# Altium integrated library Motorola Microcontroller 8-Bit.IntLib: 909 symbols (part 28 of 31)
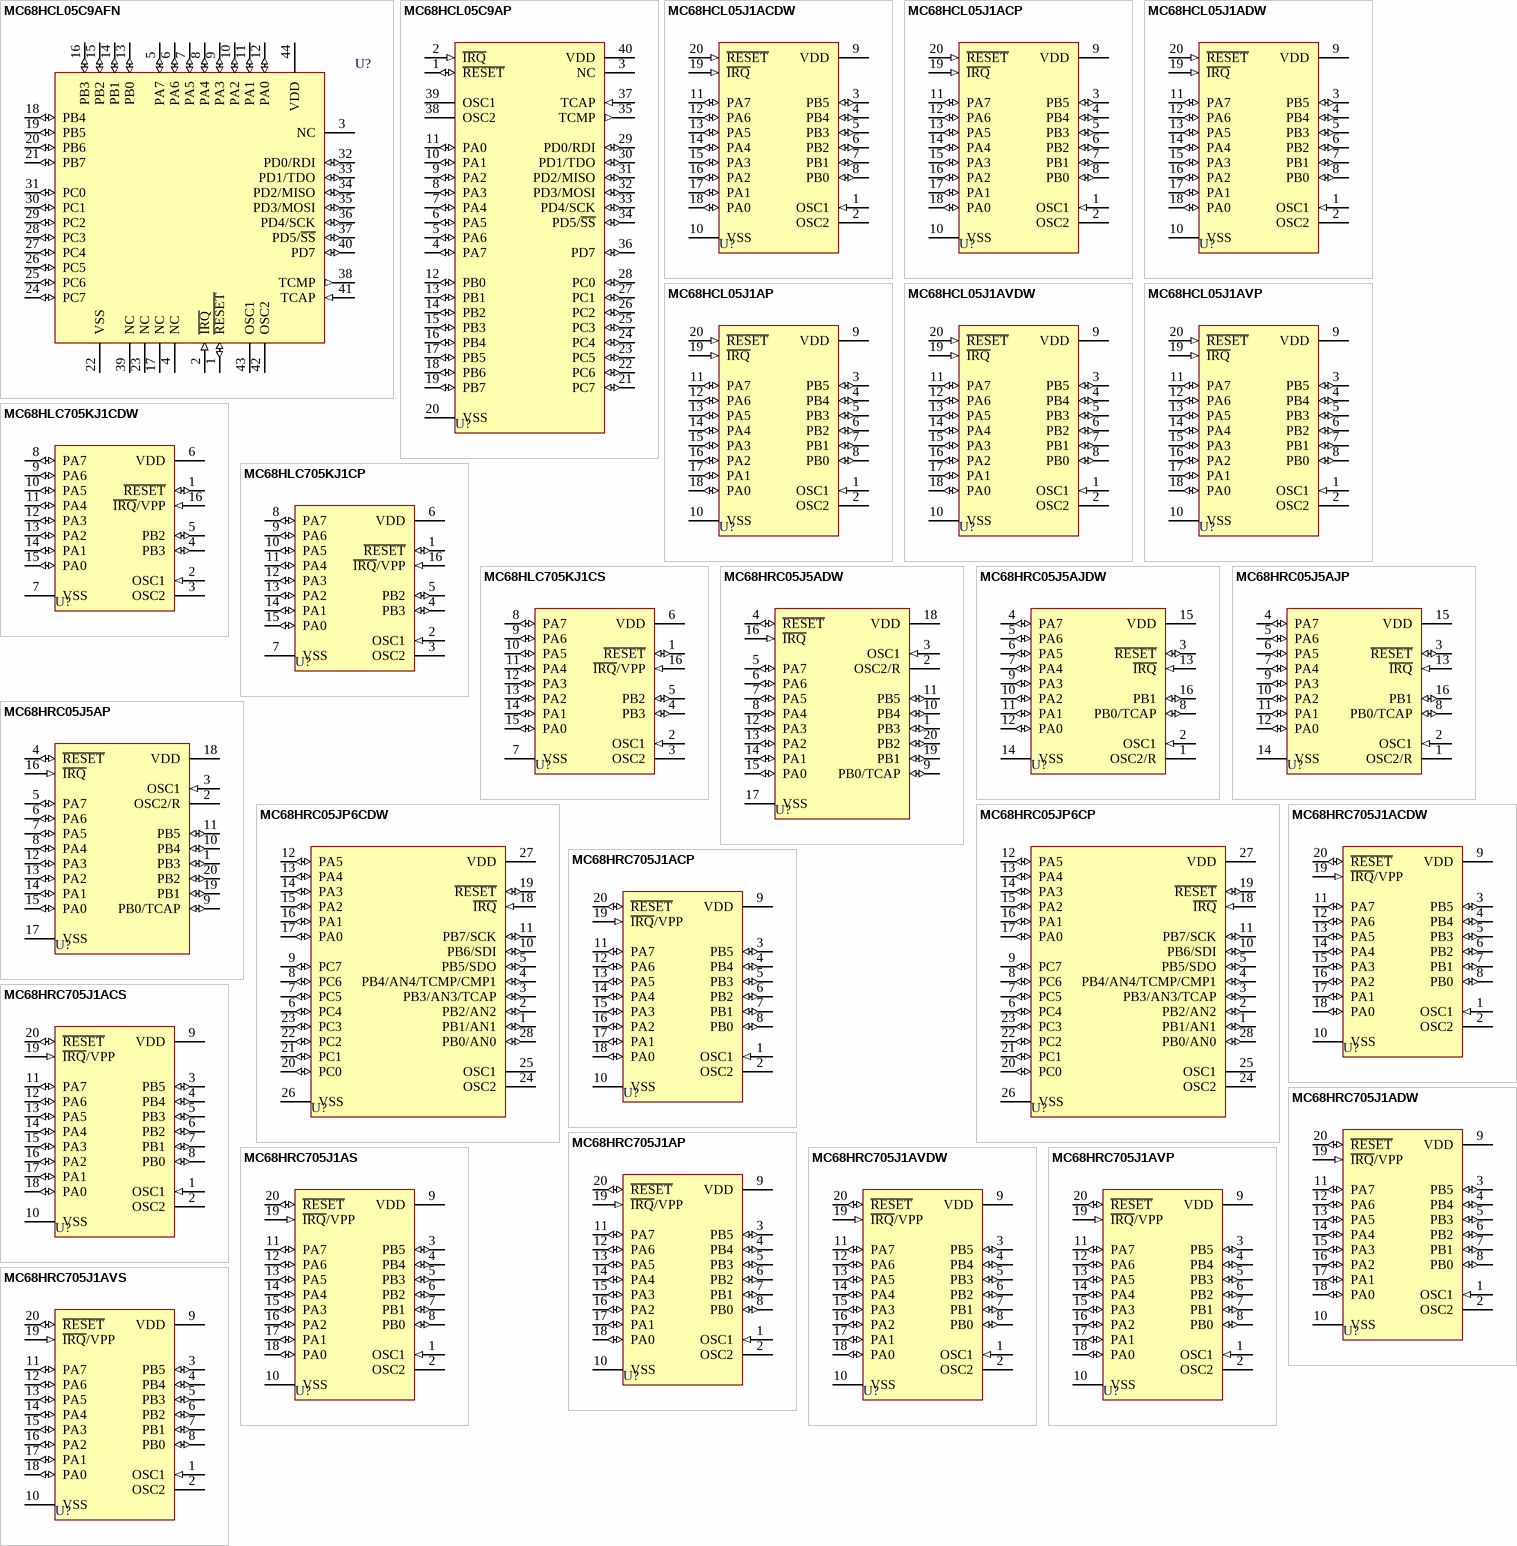
[diagram p140: symbols MC68HCL05C9AFN to MC68HRC705J1AVS]

## MC68HRC705J1ADW
designator U?
8-Bit Microcontroller; Published: 17-Jan-2003; LatestRevisionDate: 13-Apr-2006; LatestRevisionNote: IPC-7351 Footprint Added.; DatasheetVersion: Rev 4, 5/2002; PackageReference: 751D-04; Publisher: Altium Limited; PackageDescription: 20-Pin Small Outline Integrated Circuit 1.27 mm Pitch; ComponentLink1Description: Manufacturer Link; ComponentLink1URL: http://www.freescale.com/; ComponentLink2Description: Datasheet; ComponentLink2URL: http://www.freescale.com/files/microcontrollers/doc/data_sheet/MC68HC705J1A.pdf
footprint 751D-04_N (SOIC, 20-Leads, Body 12.8x7.5mm, Pitch 1.27mm, IPC Medium Density)
footprint 751D-04_L (SOIC, 20-Leads, Body 12.8x7.5mm, Pitch 1.27mm, IPC High Density)
footprint 751D-04_M (SOIC, 20-Leads, Body 12.8x7.5mm, Pitch 1.27mm, IPC Low Density)
3D model 751D-05 (20-Pin Small Outline Integrated Circuit 1.27 mm Pitch)
pins: 1 OSC1 (in), 2 OSC2, 3 PB5 (io), 4 PB4 (io), 5 PB3 (io), 6 PB2 (io), 7 PB1 (io), 8 PB0 (io), 9 VDD (power), 10 VSS (power), 11 PA7 (io), 12 PA6 (io), 13 PA5 (io), 14 PA4 (io), 15 PA3 (io), 16 PA2 (io), 17 PA1 (io), 18 PA0 (io), 19 ~{IRQ}/VPP (in), 20 ~{RESET} (io)

## MC68HRC705J1AP
designator U?
8-Bit Microcontroller; Published: 17-Jan-2003; LatestRevisionDate: 06-Jun-2005; LatestRevisionNote: Stylized 3D Model Added.; DatasheetVersion: Rev 4, 5/2002; PackageReference: 738-03; Publisher: Altium Limited; PackageDescription: DIP; 20 Leads; Row Spacing 7.62 mm; Pitch 2.54 mm; Code_JEDEC: MS-001-AD; ComponentLink1Description: Manufacturer Link; ComponentLink1URL: http://www.freescale.com/; ComponentLink2Description: Datasheet; ComponentLink2URL: http://www.freescale.com/files/microcontrollers/doc/data_sheet/MC68HC705J1A.pdf
footprint 738-03 (DIP; 20 Leads; Row Spacing 7.62 mm; Pitch 2.54 mm)
3D model 738-03 (DIP; 20 Leads; Row Spacing 7.62 mm; Pitch 2.54 mm)
pins: 1 OSC1 (in), 2 OSC2, 3 PB5 (io), 4 PB4 (io), 5 PB3 (io), 6 PB2 (io), 7 PB1 (io), 8 PB0 (io), 9 VDD (power), 10 VSS (power), 11 PA7 (io), 12 PA6 (io), 13 PA5 (io), 14 PA4 (io), 15 PA3 (io), 16 PA2 (io), 17 PA1 (io), 18 PA0 (io), 19 ~{IRQ}/VPP (in), 20 ~{RESET} (io)

## MC68HRC705J1AS
designator U?
8-Bit Microcontroller; Published: 17-Jan-2003; LatestRevisionDate: 06-Jun-2005; LatestRevisionNote: Stylized 3D Model Added.; DatasheetVersion: Rev 4, 5/2002; PackageReference: 732-03; Publisher: Altium Limited; PackageDescription: DIP; 20 Leads; Row Spacing 7.62 mm; Pitch 2.54 mm; Code_JEDEC: MS-015-AE; ComponentLink1Description: Manufacturer Link; ComponentLink1URL: http://www.freescale.com/; ComponentLink2Description: Datasheet; ComponentLink2URL: http://www.freescale.com/files/microcontrollers/doc/data_sheet/MC68HC705J1A.pdf
footprint 732-03 (DIP; 20 Leads; Row Spacing 7.62 mm; Pitch 2.54 mm)
3D model 732-03 (DIP; 20 Leads; Row Spacing 7.62 mm; Pitch 2.54 mm)
pins: 1 OSC1 (in), 2 OSC2, 3 PB5 (io), 4 PB4 (io), 5 PB3 (io), 6 PB2 (io), 7 PB1 (io), 8 PB0 (io), 9 VDD (power), 10 VSS (power), 11 PA7 (io), 12 PA6 (io), 13 PA5 (io), 14 PA4 (io), 15 PA3 (io), 16 PA2 (io), 17 PA1 (io), 18 PA0 (io), 19 ~{IRQ}/VPP (in), 20 ~{RESET} (io)

## MC68HRC705J1AVDW
designator U?
8-Bit Microcontroller; Published: 17-Jan-2003; LatestRevisionDate: 13-Apr-2006; LatestRevisionNote: IPC-7351 Footprint Added.; DatasheetVersion: Rev 4, 5/2002; PackageReference: 751D-04; Publisher: Altium Limited; PackageDescription: 20-Pin Small Outline Integrated Circuit 1.27 mm Pitch; ComponentLink1Description: Manufacturer Link; ComponentLink1URL: http://www.freescale.com/; ComponentLink2Description: Datasheet; ComponentLink2URL: http://www.freescale.com/files/microcontrollers/doc/data_sheet/MC68HC705J1A.pdf
footprint 751D-04_N (SOIC, 20-Leads, Body 12.8x7.5mm, Pitch 1.27mm, IPC Medium Density)
footprint 751D-04_L (SOIC, 20-Leads, Body 12.8x7.5mm, Pitch 1.27mm, IPC High Density)
footprint 751D-04_M (SOIC, 20-Leads, Body 12.8x7.5mm, Pitch 1.27mm, IPC Low Density)
3D model 751D-05 (20-Pin Small Outline Integrated Circuit 1.27 mm Pitch)
pins: 1 OSC1 (in), 2 OSC2, 3 PB5 (io), 4 PB4 (io), 5 PB3 (io), 6 PB2 (io), 7 PB1 (io), 8 PB0 (io), 9 VDD (power), 10 VSS (power), 11 PA7 (io), 12 PA6 (io), 13 PA5 (io), 14 PA4 (io), 15 PA3 (io), 16 PA2 (io), 17 PA1 (io), 18 PA0 (io), 19 ~{IRQ}/VPP (in), 20 ~{RESET} (io)

## MC68HRC705J1AVP
designator U?
8-Bit Microcontroller; Published: 17-Jan-2003; LatestRevisionDate: 06-Jun-2005; LatestRevisionNote: Stylized 3D Model Added.; DatasheetVersion: Rev 4, 5/2002; PackageReference: 738-03; Publisher: Altium Limited; PackageDescription: DIP; 20 Leads; Row Spacing 7.62 mm; Pitch 2.54 mm; Code_JEDEC: MS-001-AD; ComponentLink1Description: Manufacturer Link; ComponentLink1URL: http://www.freescale.com/; ComponentLink2Description: Datasheet; ComponentLink2URL: http://www.freescale.com/files/microcontrollers/doc/data_sheet/MC68HC705J1A.pdf
footprint 738-03 (DIP; 20 Leads; Row Spacing 7.62 mm; Pitch 2.54 mm)
3D model 738-03 (DIP; 20 Leads; Row Spacing 7.62 mm; Pitch 2.54 mm)
pins: 1 OSC1 (in), 2 OSC2, 3 PB5 (io), 4 PB4 (io), 5 PB3 (io), 6 PB2 (io), 7 PB1 (io), 8 PB0 (io), 9 VDD (power), 10 VSS (power), 11 PA7 (io), 12 PA6 (io), 13 PA5 (io), 14 PA4 (io), 15 PA3 (io), 16 PA2 (io), 17 PA1 (io), 18 PA0 (io), 19 ~{IRQ}/VPP (in), 20 ~{RESET} (io)

## MC68HRC705J1AVS
designator U?
8-Bit Microcontroller; Published: 17-Jan-2003; LatestRevisionDate: 06-Jun-2005; LatestRevisionNote: Stylized 3D Model Added.; DatasheetVersion: Rev 4, 5/2002; PackageReference: 732-03; Publisher: Altium Limited; PackageDescription: DIP; 20 Leads; Row Spacing 7.62 mm; Pitch 2.54 mm; Code_JEDEC: MS-015-AE; ComponentLink1Description: Manufacturer Link; ComponentLink1URL: http://www.freescale.com/; ComponentLink2Description: Datasheet; ComponentLink2URL: http://www.freescale.com/files/microcontrollers/doc/data_sheet/MC68HC705J1A.pdf
footprint 732-03 (DIP; 20 Leads; Row Spacing 7.62 mm; Pitch 2.54 mm)
3D model 732-03 (DIP; 20 Leads; Row Spacing 7.62 mm; Pitch 2.54 mm)
pins: 1 OSC1 (in), 2 OSC2, 3 PB5 (io), 4 PB4 (io), 5 PB3 (io), 6 PB2 (io), 7 PB1 (io), 8 PB0 (io), 9 VDD (power), 10 VSS (power), 11 PA7 (io), 12 PA6 (io), 13 PA5 (io), 14 PA4 (io), 15 PA3 (io), 16 PA2 (io), 17 PA1 (io), 18 PA0 (io), 19 ~{IRQ}/VPP (in), 20 ~{RESET} (io)

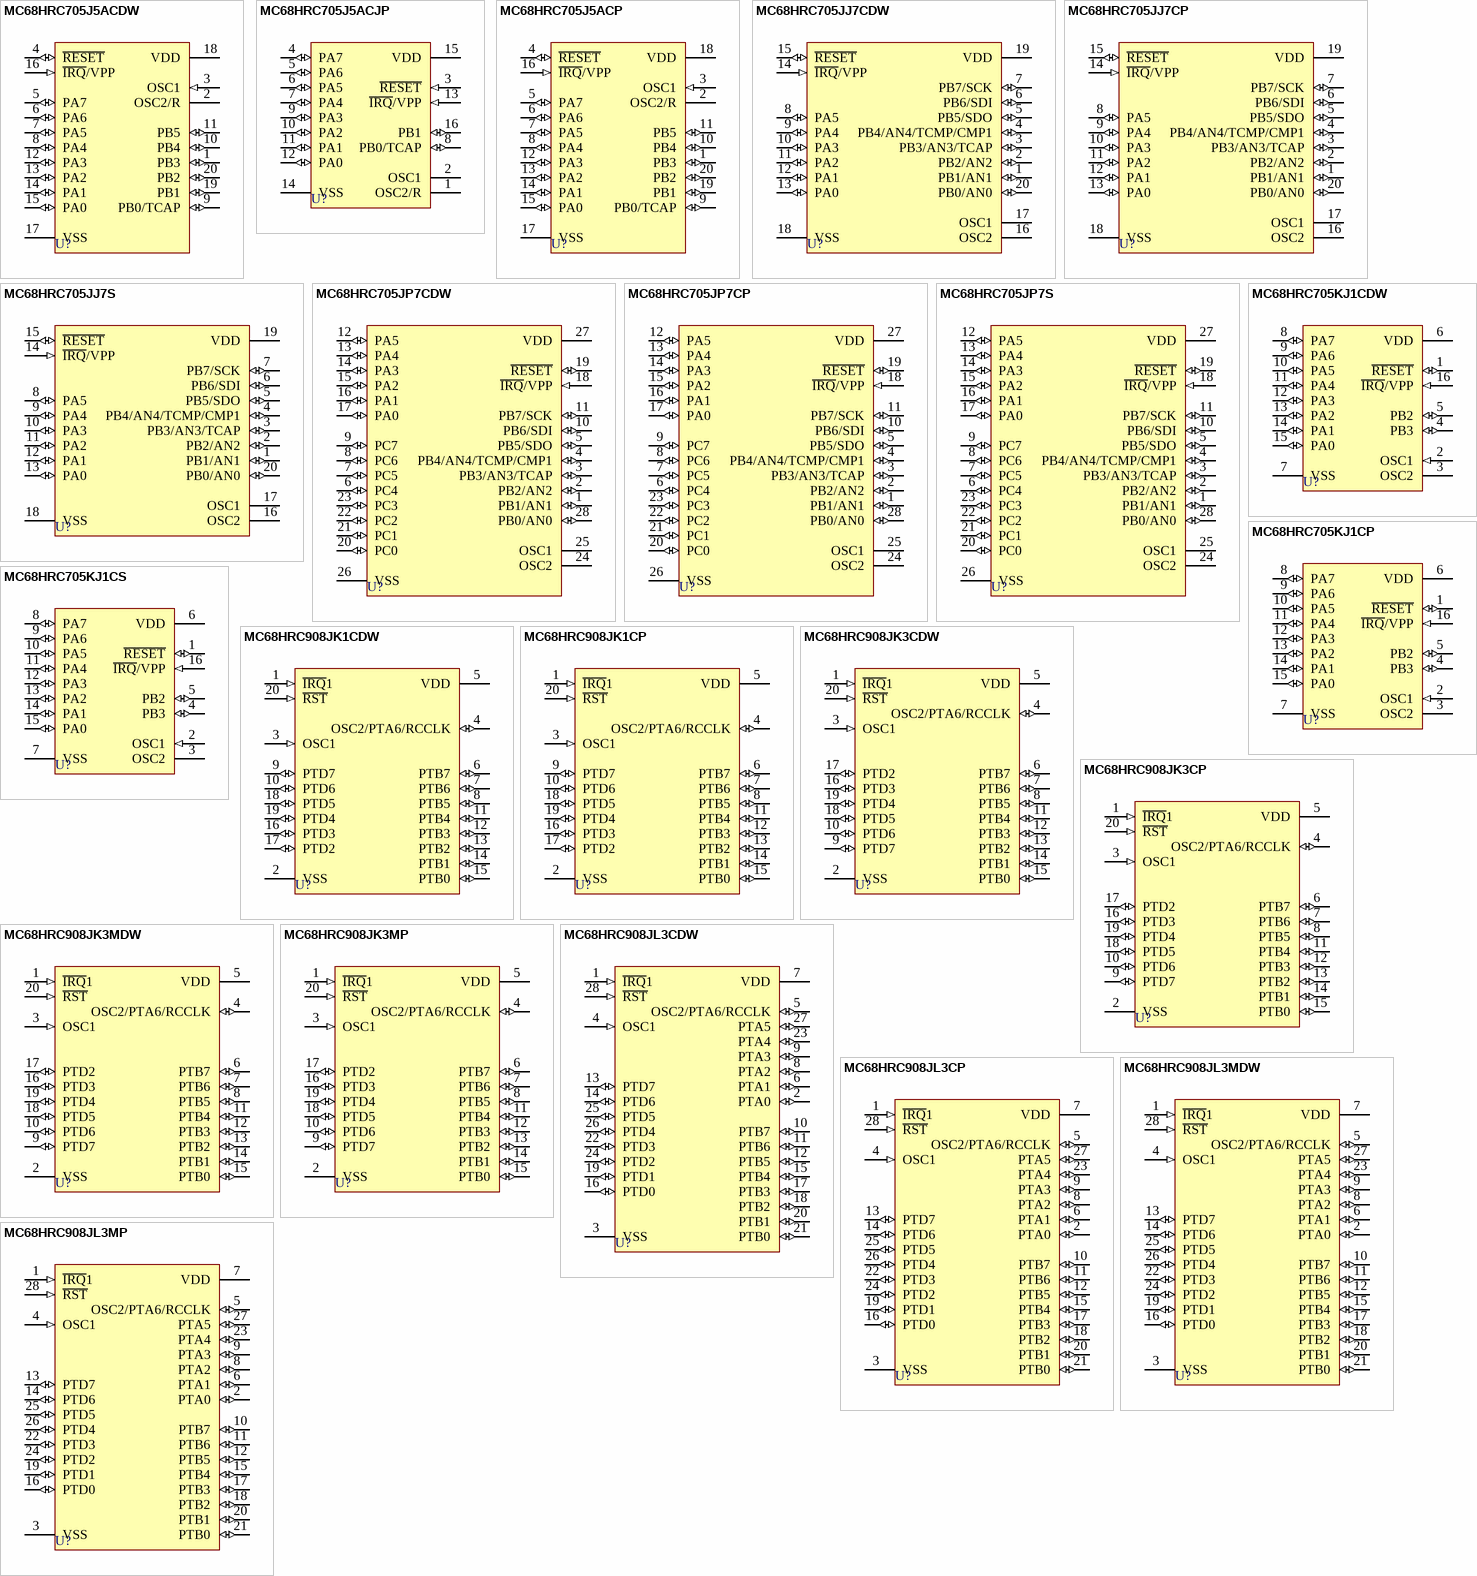
[diagram p100: symbols MC68HRC705J5ACDW to MC68HRC908JL3MP]

## MC68HRC705J5ACDW
designator U?
8-Bit Microcontroller; Published: 17-Jan-2003; LatestRevisionDate: 13-Apr-2006; LatestRevisionNote: IPC-7351 Footprint Added.; DatasheetVersion: Rev 2.1, July 16-1999; PackageReference: 751D-04; Publisher: Altium Limited; PackageDescription: 20-Pin Small Outline Integrated Circuit 1.27 mm Pitch; ComponentLink1Description: Manufacturer Link; ComponentLink1URL: http://www.freescale.com/; ComponentLink2Description: Datasheet; ComponentLink2URL: http://www.freescale.com/files/microcontrollers/doc/data_sheet/HC05J5AGRS.pdf
footprint 751D-04_N (SOIC, 20-Leads, Body 12.8x7.5mm, Pitch 1.27mm, IPC Medium Density)
footprint 751D-04_L (SOIC, 20-Leads, Body 12.8x7.5mm, Pitch 1.27mm, IPC High Density)
footprint 751D-04_M (SOIC, 20-Leads, Body 12.8x7.5mm, Pitch 1.27mm, IPC Low Density)
3D model 751D-05 (20-Pin Small Outline Integrated Circuit 1.27 mm Pitch)
pins: 1 PB3 (io), 2 OSC2/R, 3 OSC1 (in), 4 ~{RESET} (io), 5 PA7 (io), 6 PA6 (io), 7 PA5 (io), 8 PA4 (io), 9 PB0/TCAP (io), 10 PB4 (io), 11 PB5 (io), 12 PA3 (io), 13 PA2 (io), 14 PA1 (io), 15 PA0 (io), 16 ~{IRQ}/VPP (in), 17 VSS (power), 18 VDD (power), 19 PB1 (io), 20 PB2 (io)

## MC68HRC705J5ACJP
designator U?
8-Bit Microcontroller; Published: 17-Jan-2003; LatestRevisionDate: 06-Jun-2005; LatestRevisionNote: Stylized 3D Model Added.; DatasheetVersion: Rev 2.1, July 16-1999; PackageReference: 648-08; Publisher: Altium Limited; PackageDescription: DIP; 16 Leads; Row Spacing 7.62 mm; Pitch 2.54 mm; Code_JEDEC: MS-001-BB; ComponentLink1Description: Manufacturer Link; ComponentLink1URL: http://www.freescale.com/; ComponentLink2Description: Datasheet; ComponentLink2URL: http://www.freescale.com/files/microcontrollers/doc/data_sheet/HC05J5AGRS.pdf
footprint 648-08 (DIP; 16 Leads; Row Spacing 7.62 mm; Pitch 2.54 mm)
3D model 648-08 (DIP; 16 Leads; Row Spacing 7.62 mm; Pitch 2.54 mm)
pins: 1 OSC2/R, 2 OSC1, 3 ~{RESET} (in), 4 PA7 (io), 5 PA6 (io), 6 PA5 (io), 7 PA4 (io), 8 PB0/TCAP (io), 9 PA3 (io), 10 PA2 (io), 11 PA1 (io), 12 PA0 (io), 13 ~{IRQ}/VPP (in), 14 VSS (power), 15 VDD (power), 16 PB1 (io)

## MC68HRC705J5ACP
designator U?
8-Bit Microcontroller; Published: 17-Jan-2003; LatestRevisionDate: 06-Jun-2005; LatestRevisionNote: Stylized 3D Model Added.; DatasheetVersion: Rev 2.1, July 16-1999; PackageReference: 738-03; Publisher: Altium Limited; PackageDescription: DIP; 20 Leads; Row Spacing 7.62 mm; Pitch 2.54 mm; Code_JEDEC: MS-001-AD; ComponentLink1Description: Manufacturer Link; ComponentLink1URL: http://www.freescale.com/; ComponentLink2Description: Datasheet; ComponentLink2URL: http://www.freescale.com/files/microcontrollers/doc/data_sheet/HC05J5AGRS.pdf
footprint 738-03 (DIP; 20 Leads; Row Spacing 7.62 mm; Pitch 2.54 mm)
3D model 738-03 (DIP; 20 Leads; Row Spacing 7.62 mm; Pitch 2.54 mm)
pins: 1 PB3 (io), 2 OSC2/R, 3 OSC1 (in), 4 ~{RESET} (io), 5 PA7 (io), 6 PA6 (io), 7 PA5 (io), 8 PA4 (io), 9 PB0/TCAP (io), 10 PB4 (io), 11 PB5 (io), 12 PA3 (io), 13 PA2 (io), 14 PA1 (io), 15 PA0 (io), 16 ~{IRQ}/VPP (in), 17 VSS (power), 18 VDD (power), 19 PB1 (io), 20 PB2 (io)

## MC68HRC705JJ7CDW
designator U?
8-Bit Microcontroller; Published: 17-Jan-2003; LatestRevisionDate: 13-Apr-2006; LatestRevisionNote: IPC-7351 Footprint Added.; DatasheetVersion: Rev 4, 2001; PackageReference: 751D-04; Publisher: Altium Limited; PackageDescription: 20-Pin Small Outline Integrated Circuit 1.27 mm Pitch; ComponentLink1Description: Manufacturer Link; ComponentLink1URL: http://www.freescale.com/; ComponentLink2Description: Datasheet; ComponentLink2URL: http://www.freescale.com/files/microcontrollers/doc/data_sheet/MC68HC705JJ7.pdf
footprint 751D-04_N (SOIC, 20-Leads, Body 12.8x7.5mm, Pitch 1.27mm, IPC Medium Density)
footprint 751D-04_L (SOIC, 20-Leads, Body 12.8x7.5mm, Pitch 1.27mm, IPC High Density)
footprint 751D-04_M (SOIC, 20-Leads, Body 12.8x7.5mm, Pitch 1.27mm, IPC Low Density)
3D model 751D-05 (20-Pin Small Outline Integrated Circuit 1.27 mm Pitch)
pins: 1 PB1/AN1 (io), 2 PB2/AN2 (io), 3 PB3/AN3/TCAP (io), 4 PB4/AN4/TCMP/CMP1 (io), 5 PB5/SDO (io), 6 PB6/SDI (io), 7 PB7/SCK (io), 8 PA5 (io), 9 PA4 (io), 10 PA3 (io), 11 PA2 (io), 12 PA1 (io), 13 PA0 (io), 14 ~{IRQ}/VPP (in), 15 ~{RESET} (io), 16 OSC2, 17 OSC1, 18 VSS (power), 19 VDD (power), 20 PB0/AN0 (io)

## MC68HRC705JJ7CP
designator U?
8-Bit Microcontroller; Published: 17-Jan-2003; LatestRevisionDate: 06-Jun-2005; LatestRevisionNote: Stylized 3D Model Added.; DatasheetVersion: Rev 4, 2001; PackageReference: 738-03; Publisher: Altium Limited; PackageDescription: DIP; 20 Leads; Row Spacing 7.62 mm; Pitch 2.54 mm; Code_JEDEC: MS-001-AD; ComponentLink1Description: Manufacturer Link; ComponentLink1URL: http://www.freescale.com/; ComponentLink2Description: Datasheet; ComponentLink2URL: http://www.freescale.com/files/microcontrollers/doc/data_sheet/MC68HC705JJ7.pdf
footprint 738-03 (DIP; 20 Leads; Row Spacing 7.62 mm; Pitch 2.54 mm)
3D model 738-03 (DIP; 20 Leads; Row Spacing 7.62 mm; Pitch 2.54 mm)
pins: 1 PB1/AN1 (io), 2 PB2/AN2 (io), 3 PB3/AN3/TCAP (io), 4 PB4/AN4/TCMP/CMP1 (io), 5 PB5/SDO (io), 6 PB6/SDI (io), 7 PB7/SCK (io), 8 PA5 (io), 9 PA4 (io), 10 PA3 (io), 11 PA2 (io), 12 PA1 (io), 13 PA0 (io), 14 ~{IRQ}/VPP (in), 15 ~{RESET} (io), 16 OSC2, 17 OSC1, 18 VSS (power), 19 VDD (power), 20 PB0/AN0 (io)

## MC68HRC705JJ7S
designator U?
8-Bit Microcontroller; Published: 17-Jan-2003; LatestRevisionDate: 06-Jun-2005; LatestRevisionNote: Stylized 3D Model Added.; DatasheetVersion: Rev 4, 2001; PackageReference: 732-03; Publisher: Altium Limited; PackageDescription: DIP; 20 Leads; Row Spacing 7.62 mm; Pitch 2.54 mm; Code_JEDEC: MS-015-AE; ComponentLink1Description: Manufacturer Link; ComponentLink1URL: http://www.freescale.com/; ComponentLink2Description: Datasheet; ComponentLink2URL: http://www.freescale.com/files/microcontrollers/doc/data_sheet/MC68HC705JJ7.pdf
footprint 732-03 (DIP; 20 Leads; Row Spacing 7.62 mm; Pitch 2.54 mm)
3D model 732-03 (DIP; 20 Leads; Row Spacing 7.62 mm; Pitch 2.54 mm)
pins: 1 PB1/AN1 (io), 2 PB2/AN2 (io), 3 PB3/AN3/TCAP (io), 4 PB4/AN4/TCMP/CMP1 (io), 5 PB5/SDO (io), 6 PB6/SDI (io), 7 PB7/SCK (io), 8 PA5 (io), 9 PA4 (io), 10 PA3 (io), 11 PA2 (io), 12 PA1 (io), 13 PA0 (io), 14 ~{IRQ}/VPP (in), 15 ~{RESET} (io), 16 OSC2, 17 OSC1, 18 VSS (power), 19 VDD (power), 20 PB0/AN0 (io)

## MC68HRC705JP7CDW
designator U?
8-Bit Microcontroller; Published: 17-Jan-2003; LatestRevisionDate: 13-Apr-2006; LatestRevisionNote: IPC-7351 Footprint Added.; DatasheetVersion: Rev 4, 2001; PackageReference: 751F-03; Publisher: Altium Limited; PackageDescription: 28-Pin Small Outline Integrated Circuit 1.27 mm Pitch; ComponentLink1Description: Manufacturer Link; ComponentLink1URL: http://www.freescale.com/; ComponentLink2Description: Datasheet; ComponentLink2URL: http://www.freescale.com/files/microcontrollers/doc/data_sheet/MC68HC705JJ7.pdf
footprint 751F-03_N (SOIC, 28-Leads, Body 17.9x7.5mm, Pitch 1.27mm, IPC Medium Density)
footprint 751F-03_L (SOIC, 28-Leads, Body 17.9x7.5mm, Pitch 1.27mm, IPC High Density)
footprint 751F-03_M (SOIC, 28-Leads, Body 17.9x7.5mm, Pitch 1.27mm, IPC Low Density)
3D model 751F-03 (28-Pin Small Outline Integrated Circuit 1.27 mm Pitch)
pins: 1 PB1/AN1 (io), 2 PB2/AN2 (io), 3 PB3/AN3/TCAP (io), 4 PB4/AN4/TCMP/CMP1 (io), 5 PB5/SDO (io), 6 PC4 (io), 7 PC5 (io), 8 PC6 (io), 9 PC7 (io), 10 PB6/SDI (io), 11 PB7/SCK (io), 12 PA5 (io), 13 PA4 (io), 14 PA3 (io), 15 PA2 (io), 16 PA1 (io), 17 PA0 (io), 18 ~{IRQ}/VPP (in), 19 ~{RESET} (io), 20 PC0 (io), 21 PC1 (io), 22 PC2 (io), 23 PC3 (io), 24 OSC2, 25 OSC1, 26 VSS (power), 27 VDD (power), 28 PB0/AN0 (io)

## MC68HRC705JP7CP
designator U?
8-Bit Microcontroller; Published: 17-Jan-2003; LatestRevisionDate: 06-Jun-2005; LatestRevisionNote: Stylized 3D Model Added.; DatasheetVersion: Rev 4, 2001; PackageReference: 710-02; Publisher: Altium Limited; PackageDescription: DIP; 28 Leads; Row Spacing 15.24 mm; Pitch 2.54 mm; ComponentLink1Description: Manufacturer Link; ComponentLink1URL: http://www.freescale.com/; ComponentLink2Description: Datasheet; ComponentLink2URL: http://www.freescale.com/files/microcontrollers/doc/data_sheet/MC68HC705JJ7.pdf
footprint 710-02 (DIP; 28 Leads; Row Spacing 15.24 mm; Pitch 2.54 mm)
3D model 710-02 (DIP; 28 Leads; Row Spacing 15.24 mm; Pitch 2.54 mm)
pins: 1 PB1/AN1 (io), 2 PB2/AN2 (io), 3 PB3/AN3/TCAP (io), 4 PB4/AN4/TCMP/CMP1 (io), 5 PB5/SDO (io), 6 PC4 (io), 7 PC5 (io), 8 PC6 (io), 9 PC7 (io), 10 PB6/SDI (io), 11 PB7/SCK (io), 12 PA5 (io), 13 PA4 (io), 14 PA3 (io), 15 PA2 (io), 16 PA1 (io), 17 PA0 (io), 18 ~{IRQ}/VPP (in), 19 ~{RESET} (io), 20 PC0 (io), 21 PC1 (io), 22 PC2 (io), 23 PC3 (io), 24 OSC2, 25 OSC1, 26 VSS (power), 27 VDD (power), 28 PB0/AN0 (io)

## MC68HRC705JP7S
designator U?
8-Bit Microcontroller; Published: 17-Jan-2003; LatestRevisionDate: 06-Jun-2005; LatestRevisionNote: Stylized 3D Model Added.; DatasheetVersion: Rev 4, 2001; PackageVersion: rev4, 2001; PackageReference: 733A; Publisher: Altium Limited; PackageDescription: CerDIP, Window; 28 Leads; Row Spacing 15.24 mm; Pitch 2.54 mm; ComponentLink1Description: Manufacturer Link; ComponentLink1URL: http://www.freescale.com/; ComponentLink2Description: Datasheet; ComponentLink2URL: http://www.freescale.com/files/microcontrollers/doc/data_sheet/MC68HC705JJ7.pdf
footprint 733A (CerDIP, Window; 28 Leads; Row Spacing 15.24 mm; Pitch 2.54 mm)
3D model 710-02 (CerDIP, Window; 28 Leads; Row Spacing 15.24 mm; Pitch 2.54 mm)
pins: 1 PB1/AN1 (io), 2 PB2/AN2 (io), 3 PB3/AN3/TCAP (io), 4 PB4/AN4/TCMP/CMP1 (io), 5 PB5/SDO (io), 6 PC4 (io), 7 PC5 (io), 8 PC6 (io), 9 PC7 (io), 10 PB6/SDI (io), 11 PB7/SCK (io), 12 PA5 (io), 13 PA4 (io), 14 PA3 (io), 15 PA2 (io), 16 PA1 (io), 17 PA0 (io), 18 ~{IRQ}/VPP (in), 19 ~{RESET} (io), 20 PC0 (io), 21 PC1 (io), 22 PC2 (io), 23 PC3 (io), 24 OSC2, 25 OSC1, 26 VSS (power), 27 VDD (power), 28 PB0/AN0 (io)

## MC68HRC705KJ1CDW
designator U?
8-Bit Microcontroller; Published: 17-Jan-2003; LatestRevisionDate: 13-Apr-2006; LatestRevisionNote: IPC-7351 Footprint Added.; DatasheetVersion: Rev 3, 4/2002; PackageVersion: Sep-2002; PackageReference: 751G; Publisher: Altium Limited; PackageDescription: 16-Pin Small Outline Integrated Circuit 1.27 mm Pitch; ComponentLink1Description: Manufacturer Link; ComponentLink1URL: http://www.freescale.com/; ComponentLink2Description: Datasheet; ComponentLink2URL: http://www.freescale.com/files/microcontrollers/doc/data_sheet/MC68HC705KJ1.pdf
footprint 751G_N (SOIC, 16-Leads, Body 10.3x7.5mm, Pitch 1.27mm, IPC Medium Density)
footprint 751G_L (SOIC, 16-Leads, Body 10.3x7.5mm, Pitch 1.27mm, IPC High Density)
footprint 751G_M (SOIC, 16-Leads, Body 10.3x7.5mm, Pitch 1.27mm, IPC Low Density)
3D model 751G (16-Pin Small Outline Integrated Circuit 1.27 mm Pitch)
pins: 1 ~{RESET} (io), 2 OSC1 (in), 3 OSC2, 4 PB3 (io), 5 PB2 (io), 6 VDD (power), 7 VSS (power), 8 PA7 (io), 9 PA6 (io), 10 PA5 (io), 11 PA4 (io), 12 PA3 (io), 13 PA2 (io), 14 PA1 (io), 15 PA0 (io), 16 ~{IRQ}/VPP (in)

## MC68HRC705KJ1CP
designator U?
8-Bit Microcontroller; Published: 17-Jan-2003; LatestRevisionDate: 06-Jun-2005; LatestRevisionNote: Stylized 3D Model Added.; DatasheetVersion: Rev 3, 4/2002; PackageReference: 648-08; Publisher: Altium Limited; PackageDescription: DIP; 16 Leads; Row Spacing 7.62 mm; Pitch 2.54 mm; Code_JEDEC: MS-001-BB; ComponentLink1Description: Manufacturer Link; ComponentLink1URL: http://www.freescale.com/; ComponentLink2Description: Datasheet; ComponentLink2URL: http://www.freescale.com/files/microcontrollers/doc/data_sheet/MC68HC705KJ1.pdf
footprint 648-08 (DIP; 16 Leads; Row Spacing 7.62 mm; Pitch 2.54 mm)
3D model 648-08 (DIP; 16 Leads; Row Spacing 7.62 mm; Pitch 2.54 mm)
pins: 1 ~{RESET} (io), 2 OSC1 (in), 3 OSC2, 4 PB3 (io), 5 PB2 (io), 6 VDD (power), 7 VSS (power), 8 PA7 (io), 9 PA6 (io), 10 PA5 (io), 11 PA4 (io), 12 PA3 (io), 13 PA2 (io), 14 PA1 (io), 15 PA0 (io), 16 ~{IRQ}/VPP (in)

## MC68HRC705KJ1CS
designator U?
8-Bit Microcontroller; Published: 17-Jan-2003; LatestRevisionDate: 06-Jun-2005; LatestRevisionNote: Stylized 3D Model Added.; DatasheetVersion: Rev 3, 4/2002; PackageReference: 620-10; Publisher: Altium Limited; PackageDescription: DIP; 16 Leads; Row Spacing 7.62 mm; Pitch 2.54 mm; ComponentLink1Description: Manufacturer Link; ComponentLink1URL: http://www.freescale.com/; ComponentLink2Description: Datasheet; ComponentLink2URL: http://www.freescale.com/files/microcontrollers/doc/data_sheet/MC68HC705KJ1.pdf
footprint 620-10 (DIP; 16 Leads; Row Spacing 7.62 mm; Pitch 2.54 mm)
3D model 620-10 (DIP; 16 Leads; Row Spacing 7.62 mm; Pitch 2.54 mm)
pins: 1 ~{RESET} (io), 2 OSC1 (in), 3 OSC2, 4 PB3 (io), 5 PB2 (io), 6 VDD (power), 7 VSS (power), 8 PA7 (io), 9 PA6 (io), 10 PA5 (io), 11 PA4 (io), 12 PA3 (io), 13 PA2 (io), 14 PA1 (io), 15 PA0 (io), 16 ~{IRQ}/VPP (in)

## MC68HRC908JK1CDW
designator U?
8-Bit Microcontroller; Published: 17-Jan-2003; LatestRevisionDate: 13-Apr-2006; LatestRevisionNote: IPC-7351 Footprint Added.; DatasheetVersion: Rev 1.0, 1999; PackageVersion: rev4.0, 2001; PackageReference: 751D-05; Publisher: Altium Limited; PackageDescription: 20-Pin Plastic Small Outline Integrated Circuit 1.27 mm Pitch; ComponentLink1Description: Manufacturer Link; ComponentLink1URL: http://www.freescale.com/
footprint 751D-05_N (SOIC, 20-Leads, Body 12.8x7.5mm, Pitch 1.27mm, IPC Medium Density)
footprint 751D-05_L (SOIC, 20-Leads, Body 12.8x7.5mm, Pitch 1.27mm, IPC High Density)
footprint 751D-05_M (SOIC, 20-Leads, Body 12.8x7.5mm, Pitch 1.27mm, IPC Low Density)
3D model 751D-05 (20-Pin Plastic Small Outline Integrated Circuit 1.27 mm Pitch)
pins: 1 ~{IRQ}1 (in), 2 VSS (power), 3 OSC1 (in), 4 OSC2/PTA6/RCCLK (io), 5 VDD (power), 6 PTB7 (io), 7 PTB6 (io), 8 PTB5 (io), 9 PTD7 (io), 10 PTD6 (io), 11 PTB4 (io), 12 PTB3 (io), 13 PTB2 (io), 14 PTB1 (io), 15 PTB0 (io), 16 PTD3 (io), 17 PTD2 (io), 18 PTD5 (io), 19 PTD4 (io), 20 ~{RST} (in)

## MC68HRC908JK1CP
designator U?
8-Bit Microcontroller; Published: 17-Jan-2003; LatestRevisionDate: 06-Jun-2005; LatestRevisionNote: Stylized 3D Model Added.; DatasheetVersion: Rev 1.0, 1999; PackageReference: 738-03; Publisher: Altium Limited; PackageDescription: DIP; 20 Leads; Row Spacing 7.62 mm; Pitch 2.54 mm; Code_JEDEC: MS-001-AD; ComponentLink1Description: Manufacturer Link; ComponentLink1URL: http://www.freescale.com/
footprint 738-03 (DIP; 20 Leads; Row Spacing 7.62 mm; Pitch 2.54 mm)
3D model 738-03 (DIP; 20 Leads; Row Spacing 7.62 mm; Pitch 2.54 mm)
pins: 1 ~{IRQ}1 (in), 2 VSS (power), 3 OSC1 (in), 4 OSC2/PTA6/RCCLK (io), 5 VDD (power), 6 PTB7 (io), 7 PTB6 (io), 8 PTB5 (io), 9 PTD7 (io), 10 PTD6 (io), 11 PTB4 (io), 12 PTB3 (io), 13 PTB2 (io), 14 PTB1 (io), 15 PTB0 (io), 16 PTD3 (io), 17 PTD2 (io), 18 PTD5 (io), 19 PTD4 (io), 20 ~{RST} (in)

## MC68HRC908JK3CDW
designator U?
8-Bit Microcontroller; Published: 17-Jan-2003; LatestRevisionDate: 13-Apr-2006; LatestRevisionNote: IPC-7351 Footprint Added.; DatasheetVersion: Rev 1.0, 1999; PackageVersion: rev4.0, 2001; PackageReference: 751D-05; Publisher: Altium Limited; PackageDescription: 20-Pin Plastic Small Outline Integrated Circuit 1.27 mm Pitch; ComponentLink1Description: Manufacturer Link; ComponentLink1URL: http://www.freescale.com/
footprint 751D-05_N (SOIC, 20-Leads, Body 12.8x7.5mm, Pitch 1.27mm, IPC Medium Density)
footprint 751D-05_L (SOIC, 20-Leads, Body 12.8x7.5mm, Pitch 1.27mm, IPC High Density)
footprint 751D-05_M (SOIC, 20-Leads, Body 12.8x7.5mm, Pitch 1.27mm, IPC Low Density)
3D model 751D-05 (20-Pin Plastic Small Outline Integrated Circuit 1.27 mm Pitch)
pins: 1 ~{IRQ}1 (in), 2 VSS (power), 3 OSC1 (in), 4 OSC2/PTA6/RCCLK (io), 5 VDD (power), 6 PTB7 (io), 7 PTB6 (io), 8 PTB5 (io), 9 PTD7 (io), 10 PTD6 (io), 11 PTB4 (io), 12 PTB3 (io), 13 PTB2 (io), 14 PTB1 (io), 15 PTB0 (io), 16 PTD3 (io), 17 PTD2 (io), 18 PTD5 (io), 19 PTD4 (io), 20 ~{RST} (in)

## MC68HRC908JK3CP
designator U?
8-Bit Microcontroller; Published: 17-Jan-2003; LatestRevisionDate: 06-Jun-2005; LatestRevisionNote: Stylized 3D Model Added.; DatasheetVersion: Rev 1.0, 1999; PackageReference: 738-03; Publisher: Altium Limited; PackageDescription: DIP; 20 Leads; Row Spacing 7.62 mm; Pitch 2.54 mm; Code_JEDEC: MS-001-AD; ComponentLink1Description: Manufacturer Link; ComponentLink1URL: http://www.freescale.com/
footprint 738-03 (DIP; 20 Leads; Row Spacing 7.62 mm; Pitch 2.54 mm)
3D model 738-03 (DIP; 20 Leads; Row Spacing 7.62 mm; Pitch 2.54 mm)
pins: 1 ~{IRQ}1 (in), 2 VSS (power), 3 OSC1 (in), 4 OSC2/PTA6/RCCLK (io), 5 VDD (power), 6 PTB7 (io), 7 PTB6 (io), 8 PTB5 (io), 9 PTD7 (io), 10 PTD6 (io), 11 PTB4 (io), 12 PTB3 (io), 13 PTB2 (io), 14 PTB1 (io), 15 PTB0 (io), 16 PTD3 (io), 17 PTD2 (io), 18 PTD5 (io), 19 PTD4 (io), 20 ~{RST} (in)

## MC68HRC908JK3MDW
designator U?
8-Bit Microcontroller; Published: 17-Jan-2003; LatestRevisionDate: 13-Apr-2006; LatestRevisionNote: IPC-7351 Footprint Added.; DatasheetVersion: Rev 1.0, 1999; PackageVersion: rev4.0, 2001; PackageReference: 751D-05; Publisher: Altium Limited; PackageDescription: 20-Pin Plastic Small Outline Integrated Circuit 1.27 mm Pitch; ComponentLink1Description: Manufacturer Link; ComponentLink1URL: http://www.freescale.com/
footprint 751D-05_N (SOIC, 20-Leads, Body 12.8x7.5mm, Pitch 1.27mm, IPC Medium Density)
footprint 751D-05_L (SOIC, 20-Leads, Body 12.8x7.5mm, Pitch 1.27mm, IPC High Density)
footprint 751D-05_M (SOIC, 20-Leads, Body 12.8x7.5mm, Pitch 1.27mm, IPC Low Density)
3D model 751D-05 (20-Pin Plastic Small Outline Integrated Circuit 1.27 mm Pitch)
pins: 1 ~{IRQ}1 (in), 2 VSS (power), 3 OSC1 (in), 4 OSC2/PTA6/RCCLK (io), 5 VDD (power), 6 PTB7 (io), 7 PTB6 (io), 8 PTB5 (io), 9 PTD7 (io), 10 PTD6 (io), 11 PTB4 (io), 12 PTB3 (io), 13 PTB2 (io), 14 PTB1 (io), 15 PTB0 (io), 16 PTD3 (io), 17 PTD2 (io), 18 PTD5 (io), 19 PTD4 (io), 20 ~{RST} (in)

## MC68HRC908JK3MP
designator U?
8-Bit Microcontroller; Published: 17-Jan-2003; LatestRevisionDate: 06-Jun-2005; LatestRevisionNote: Stylized 3D Model Added.; DatasheetVersion: Rev 1.0, 1999; PackageReference: 738-03; Publisher: Altium Limited; PackageDescription: DIP; 20 Leads; Row Spacing 7.62 mm; Pitch 2.54 mm; Code_JEDEC: MS-001-AD; ComponentLink1Description: Manufacturer Link; ComponentLink1URL: http://www.freescale.com/
footprint 738-03 (DIP; 20 Leads; Row Spacing 7.62 mm; Pitch 2.54 mm)
3D model 738-03 (DIP; 20 Leads; Row Spacing 7.62 mm; Pitch 2.54 mm)
pins: 1 ~{IRQ}1 (in), 2 VSS (power), 3 OSC1 (in), 4 OSC2/PTA6/RCCLK (io), 5 VDD (power), 6 PTB7 (io), 7 PTB6 (io), 8 PTB5 (io), 9 PTD7 (io), 10 PTD6 (io), 11 PTB4 (io), 12 PTB3 (io), 13 PTB2 (io), 14 PTB1 (io), 15 PTB0 (io), 16 PTD3 (io), 17 PTD2 (io), 18 PTD5 (io), 19 PTD4 (io), 20 ~{RST} (in)

## MC68HRC908JL3CDW
designator U?
8-Bit Microcontroller; Published: 17-Jan-2003; LatestRevisionDate: 13-Apr-2006; LatestRevisionNote: IPC-7351 Footprint Added.; DatasheetVersion: Rev 1.0, 1999; PackageReference: 751F-03; Publisher: Altium Limited; PackageDescription: 28-Pin Small Outline Integrated Circuit 1.27 mm Pitch; ComponentLink1Description: Manufacturer Link; ComponentLink1URL: http://www.freescale.com/
footprint 751F-03_N (SOIC, 28-Leads, Body 17.9x7.5mm, Pitch 1.27mm, IPC Medium Density)
footprint 751F-03_L (SOIC, 28-Leads, Body 17.9x7.5mm, Pitch 1.27mm, IPC High Density)
footprint 751F-03_M (SOIC, 28-Leads, Body 17.9x7.5mm, Pitch 1.27mm, IPC Low Density)
3D model 751F-03 (28-Pin Small Outline Integrated Circuit 1.27 mm Pitch)
pins: 1 ~{IRQ}1 (in), 2 PTA0 (io), 3 VSS (power), 4 OSC1 (in), 5 OSC2/PTA6/RCCLK (io), 6 PTA1 (io), 7 VDD (power), 8 PTA2 (io), 9 PTA3 (io), 10 PTB7 (io), 11 PTB6 (io), 12 PTB5 (io), 13 PTD7 (io), 14 PTD6 (io), 15 PTB4 (io), 16 PTD0 (io), 17 PTB3 (io), 18 PTB2 (io), 19 PTD1 (io), 20 PTB1 (io), 21 PTB0 (io), 22 PTD3 (io), 23 PTA4 (io), 24 PTD2 (io), 25 PTD5 (io), 26 PTD4 (io), 27 PTA5 (io), 28 ~{RST} (in)

## MC68HRC908JL3CP
designator U?
8-Bit Microcontroller; Published: 17-Jan-2003; LatestRevisionDate: 06-Jun-2005; LatestRevisionNote: Stylized 3D Model Added.; DatasheetVersion: Rev 1.0, 1999; PackageReference: 710-02; Publisher: Altium Limited; PackageDescription: DIP; 28 Leads; Row Spacing 15.24 mm; Pitch 2.54 mm; ComponentLink1Description: Manufacturer Link; ComponentLink1URL: http://www.freescale.com/
footprint 710-02 (DIP; 28 Leads; Row Spacing 15.24 mm; Pitch 2.54 mm)
3D model 710-02 (DIP; 28 Leads; Row Spacing 15.24 mm; Pitch 2.54 mm)
pins: 1 ~{IRQ}1 (in), 2 PTA0 (io), 3 VSS (power), 4 OSC1 (in), 5 OSC2/PTA6/RCCLK (io), 6 PTA1 (io), 7 VDD (power), 8 PTA2 (io), 9 PTA3 (io), 10 PTB7 (io), 11 PTB6 (io), 12 PTB5 (io), 13 PTD7 (io), 14 PTD6 (io), 15 PTB4 (io), 16 PTD0 (io), 17 PTB3 (io), 18 PTB2 (io), 19 PTD1 (io), 20 PTB1 (io), 21 PTB0 (io), 22 PTD3 (io), 23 PTA4 (io), 24 PTD2 (io), 25 PTD5 (io), 26 PTD4 (io), 27 PTA5 (io), 28 ~{RST} (in)

## MC68HRC908JL3MDW
designator U?
8-Bit Microcontroller; Published: 17-Jan-2003; LatestRevisionDate: 13-Apr-2006; LatestRevisionNote: IPC-7351 Footprint Added.; DatasheetVersion: Rev 1.0, 1999; PackageReference: 751F-03; Publisher: Altium Limited; PackageDescription: 28-Pin Small Outline Integrated Circuit 1.27 mm Pitch; ComponentLink1Description: Manufacturer Link; ComponentLink1URL: http://www.freescale.com/
footprint 751F-03_N (SOIC, 28-Leads, Body 17.9x7.5mm, Pitch 1.27mm, IPC Medium Density)
footprint 751F-03_L (SOIC, 28-Leads, Body 17.9x7.5mm, Pitch 1.27mm, IPC High Density)
footprint 751F-03_M (SOIC, 28-Leads, Body 17.9x7.5mm, Pitch 1.27mm, IPC Low Density)
3D model 751F-03 (28-Pin Small Outline Integrated Circuit 1.27 mm Pitch)
pins: 1 ~{IRQ}1 (in), 2 PTA0 (io), 3 VSS (power), 4 OSC1 (in), 5 OSC2/PTA6/RCCLK (io), 6 PTA1 (io), 7 VDD (power), 8 PTA2 (io), 9 PTA3 (io), 10 PTB7 (io), 11 PTB6 (io), 12 PTB5 (io), 13 PTD7 (io), 14 PTD6 (io), 15 PTB4 (io), 16 PTD0 (io), 17 PTB3 (io), 18 PTB2 (io), 19 PTD1 (io), 20 PTB1 (io), 21 PTB0 (io), 22 PTD3 (io), 23 PTA4 (io), 24 PTD2 (io), 25 PTD5 (io), 26 PTD4 (io), 27 PTA5 (io), 28 ~{RST} (in)

## MC68HRC908JL3MP
designator U?
8-Bit Microcontroller; Published: 17-Jan-2003; LatestRevisionDate: 06-Jun-2005; LatestRevisionNote: Stylized 3D Model Added.; DatasheetVersion: Rev 1.0, 1999; PackageReference: 710-02; Publisher: Altium Limited; PackageDescription: DIP; 28 Leads; Row Spacing 15.24 mm; Pitch 2.54 mm; ComponentLink1Description: Manufacturer Link; ComponentLink1URL: http://www.freescale.com/
footprint 710-02 (DIP; 28 Leads; Row Spacing 15.24 mm; Pitch 2.54 mm)
3D model 710-02 (DIP; 28 Leads; Row Spacing 15.24 mm; Pitch 2.54 mm)
pins: 1 ~{IRQ}1 (in), 2 PTA0 (io), 3 VSS (power), 4 OSC1 (in), 5 OSC2/PTA6/RCCLK (io), 6 PTA1 (io), 7 VDD (power), 8 PTA2 (io), 9 PTA3 (io), 10 PTB7 (io), 11 PTB6 (io), 12 PTB5 (io), 13 PTD7 (io), 14 PTD6 (io), 15 PTB4 (io), 16 PTD0 (io), 17 PTB3 (io), 18 PTB2 (io), 19 PTD1 (io), 20 PTB1 (io), 21 PTB0 (io), 22 PTD3 (io), 23 PTA4 (io), 24 PTD2 (io), 25 PTD5 (io), 26 PTD4 (io), 27 PTA5 (io), 28 ~{RST} (in)

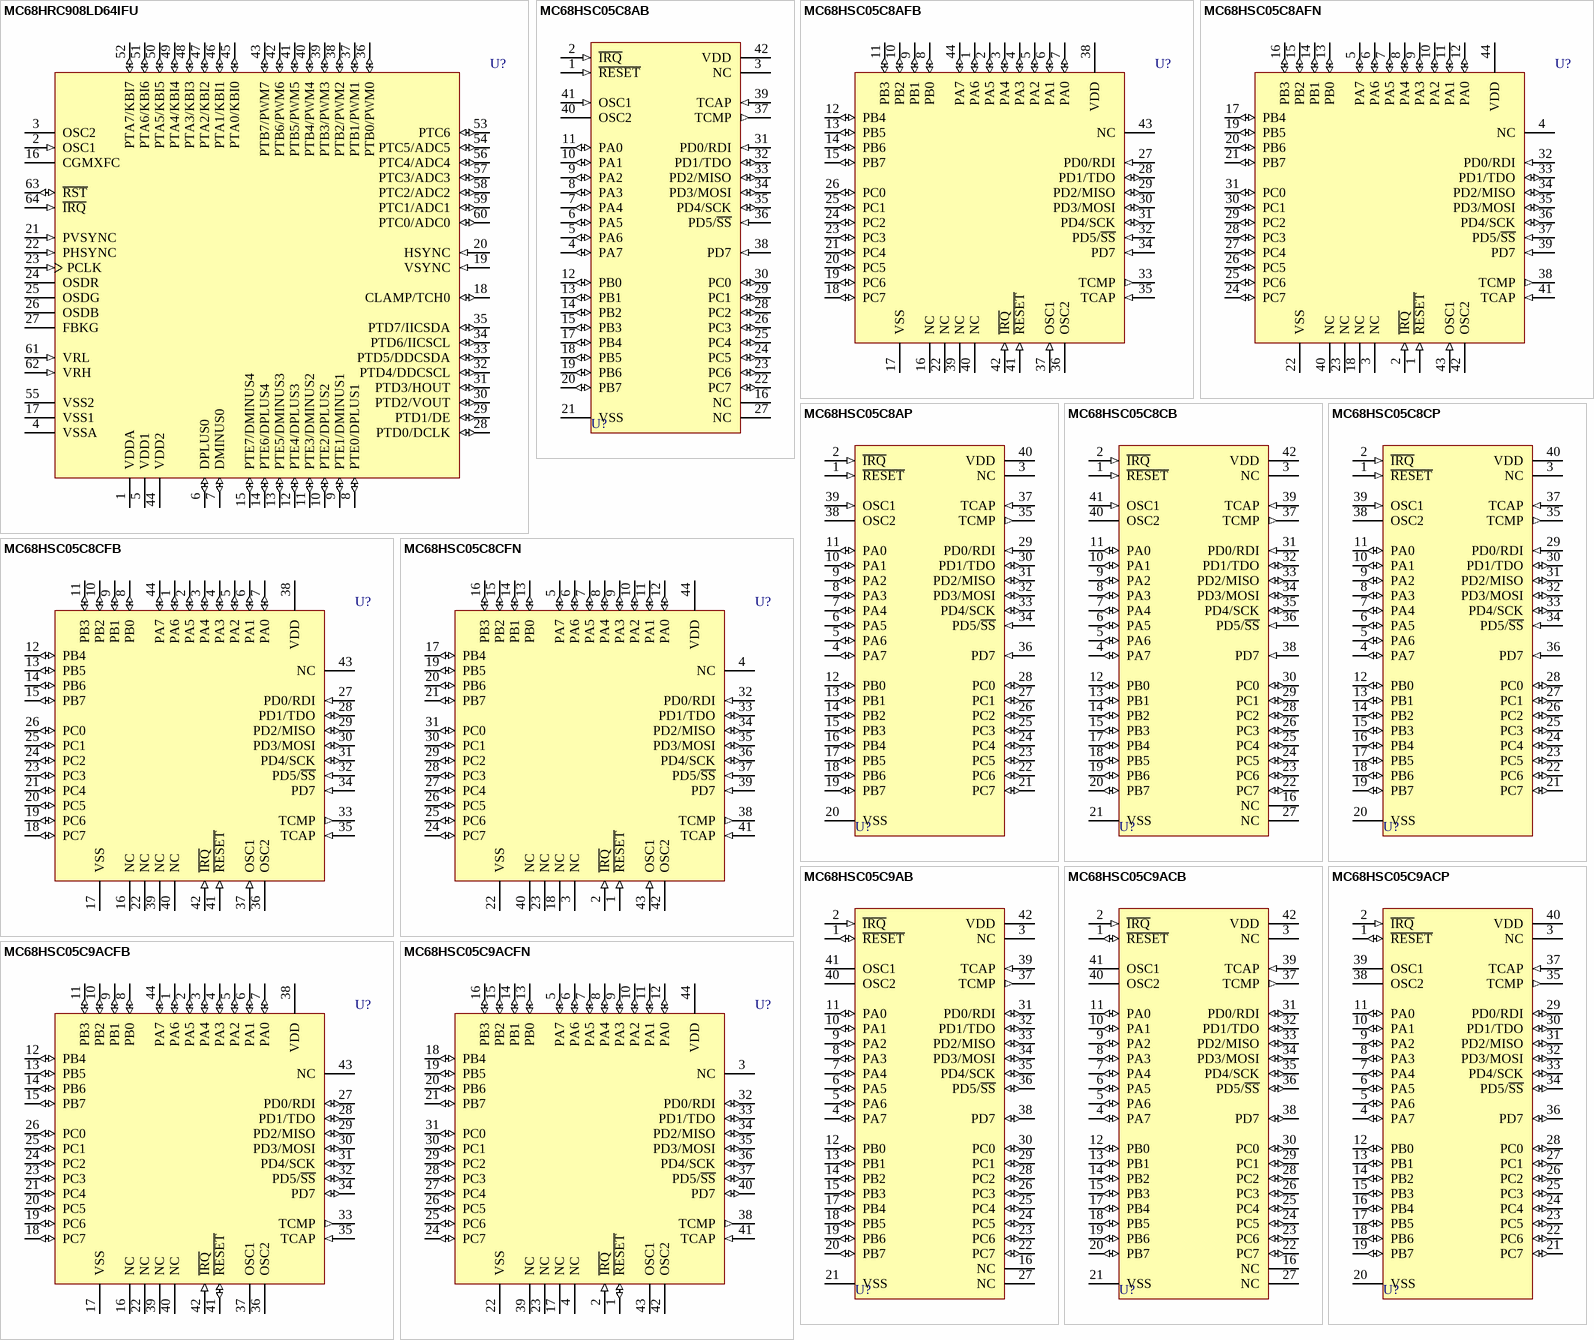
[diagram p101: symbols MC68HRC908LD64IFU to MC68HSC05C9ACP]

## MC68HRC908LD64IFU
designator U?
8-Bit Microcontroller; Published: 17-Jan-2003; LatestRevisionDate: 13-Apr-2006; LatestRevisionNote: IPC-7351 Footprint Added.; DatasheetVersion: Rev 2.0, 2001; PackageVersion: rev2, 2000; PackageReference: 840B-01; Publisher: Altium Limited; PackageDescription: 64-Pin Quad Flat Pack 0.8 mm Pitch; Code_IPC: QFP80P1720X1720-64; ComponentLink1Description: Manufacturer Link; ComponentLink1URL: http://www.freescale.com/
footprint 840B-01_N (QFP, 64-Leads, Body 14x14mm, Pitch 0.8mm, IPC Medium Density)
footprint 840B-01_L (QFP, 64-Leads, Body 14x14mm, Pitch 0.8mm, IPC High Density)
footprint 840B-01_M (QFP, 64-Leads, Body 14x14mm, Pitch 0.8mm, IPC Low Density)
3D model MC68HRC908-840B-01 (64-Pin Quad Flat Pack 0.8 mm Pitch)
pins: 1 VDDA (power), 2 OSC1 (in), 3 OSC2, 4 VSSA (power), 5 VDD1 (power), 6 DPLUS0 (io), 7 DMINUS0 (io), 8 PTE0/DPLUS1 (io), 9 PTE1/DMINUS1 (io), 10 PTE2/DPLUS2 (io), 11 PTE3/DMINUS2 (io), 12 PTE4/DPLUS3 (io), 13 PTE5/DMINUS3 (io), 14 PTE6/DPLUS4 (io), 15 PTE7/DMINUS4 (io), 16 CGMXFC, 17 VSS1 (power), 18 CLAMP/TCH0 (io), 19 VSYNC (in), 20 HSYNC (in), 21 PVSYNC (in), 22 PHSYNC (in), 23 PCLK (in), 24 OSDR (hiz), 25 OSDG (hiz), 26 OSDB (hiz), 27 FBKG (hiz), 28 PTD0/DCLK (io), 29 PTD1/DE (io), 30 PTD2/VOUT (io), 31 PTD3/HOUT (io), 32 PTD4/DDCSCL (io), 33 PTD5/DDCSDA (io), 34 PTD6/IICSCL (io), 35 PTD7/IICSDA (io), 36 PTB0/PWM0 (io), 37 PTB1/PWM1 (io), 38 PTB2/PWM2 (io), 39 PTB3/PWM3 (io), 40 PTB4/PWM4 (io), 41 PTB5/PWM5 (io), 42 PTB6/PWM6 (io), 43 PTB7/PWM7 (io), 44 VDD2 (power), 45 PTA0/KBI0 (io), 46 PTA1/KBI1 (io), 47 PTA2/KBI2 (io), 48 PTA3/KBI3 (io), 49 PTA4/KBI4 (io), 50 PTA5/KBI5 (io), 51 PTA6/KBI6 (io), 52 PTA7/KBI7 (io), 53 PTC6 (io), 54 PTC5/ADC5 (io), 55 VSS2 (power), 56 PTC4/ADC4 (io), 57 PTC3/ADC3 (io), 58 PTC2/ADC2 (io), 59 PTC1/ADC1 (io), 60 PTC0/ADC0 (io), 61 VRL (in), 62 VRH (in), 63 ~{RST} (io), 64 ~{IRQ} (in)

## MC68HSC05C8AB
designator U?
8-Bit Microcontroller; Note: If MC68HC705C8A OTPs are to be used in the same applicaion, pin 3 should be tied to VDD.; Published: 17-Jan-2003; LatestRevisionDate: 06-Jun-2005; LatestRevisionNote: Stylized 3D Model Added.; DatasheetVersion: Rev 5, 4/2002; PackageVersion: rev5, Apr-2002; PackageReference: 858-01; Publisher: Altium Limited; PackageDescription: DIP, Plastic; 42 Leads; Row Spacing 15.24 mm; Pitch 1.778 mm; ComponentLink1Description: Manufacturer Link; ComponentLink1URL: http://www.freescale.com/; ComponentLink2Description: Datasheet; ComponentLink2URL: http://www.freescale.com/files/microcontrollers/doc/data_sheet/MC68HC05C8A.pdf
footprint 858-01 (DIP, Plastic; 42 Leads; Row Spacing 15.24 mm; Pitch 1.778 mm)
3D model 858-01 (DIP, Plastic; 42 Leads; Row Spacing 15.24 mm; Pitch 1.778 mm)
pins: 1 ~{RESET} (in), 2 ~{IRQ} (in), 3 NC, 4 PA7 (io), 5 PA6 (io), 6 PA5 (io), 7 PA4 (io), 8 PA3 (io), 9 PA2 (io), 10 PA1 (io), 11 PA0 (io), 12 PB0 (io), 13 PB1 (io), 14 PB2 (io), 15 PB3 (io), 16 NC, 17 PB4 (io), 18 PB5 (io), 19 PB6 (io), 20 PB7 (io), 21 VSS (power), 22 PC7 (io), 23 PC6 (io), 24 PC5 (io), 25 PC4 (io), 26 PC3 (io), 27 NC, 28 PC2 (io), 29 PC1 (io), 30 PC0 (io), 31 PD0/RDI (in), 32 PD1/TDO (io), 33 PD2/MISO (io), 34 PD3/MOSI (io), 35 PD4/SCK (io), 36 PD5/~{SS} (in), 37 TCMP (out), 38 PD7 (in), 39 TCAP (in), 40 OSC2, 41 OSC1 (in), 42 VDD (power)

## MC68HSC05C8AFB
designator U?
8-Bit Microcontroller; Note: If MC68HC705C8A OTPs are to be used in the same applicaion, pin 43 should be tied to VDD.; Published: 17-Jan-2003; LatestRevisionDate: 13-Apr-2006; LatestRevisionNote: IPC-7351 Footprint Added.; DatasheetVersion: Rev 5, 4/2002; PackageVersion: rev5, Apr-2002; PackageReference: 824A-01; Publisher: Altium Limited; PackageDescription: 44-Pin Quad Flat Pack 0.8 mm Pitch; Code_JEDEC: MS-022-AB; Code_IPC: QFP80P1320X1320-44; ComponentLink1Description: Manufacturer Link; ComponentLink1URL: http://www.freescale.com/; ComponentLink2Description: Datasheet; ComponentLink2URL: http://www.freescale.com/files/microcontrollers/doc/data_sheet/MC68HC05C8A.pdf
footprint 824A-01_N (QFP, 44-Leads, Body 10x10mm, Pitch 0.8mm, IPC Medium Density)
footprint 824A-01_L (QFP, 44-Leads, Body 10x10mm, Pitch 0.8mm, IPC High Density)
footprint 824A-01_M (QFP, 44-Leads, Body 10x10mm, Pitch 0.8mm, IPC Low Density)
3D model MC68HSC05-824A-01 (44-Pin Quad Flat Pack 0.8 mm Pitch)
pins: 1 PA6 (io), 2 PA5 (io), 3 PA4 (io), 4 PA3 (io), 5 PA2 (io), 6 PA1 (io), 7 PA0 (io), 8 PB0 (io), 9 PB1 (io), 10 PB2 (io), 11 PB3 (io), 12 PB4 (io), 13 PB5 (io), 14 PB6 (io), 15 PB7 (io), 16 NC, 17 VSS (power), 18 PC7 (io), 19 PC6 (io), 20 PC5 (io), 21 PC4 (io), 22 NC, 23 PC3 (io), 24 PC2 (io), 25 PC1 (io), 26 PC0 (io), 27 PD0/RDI (in), 28 PD1/TDO (io), 29 PD2/MISO (io), 30 PD3/MOSI (io), 31 PD4/SCK (io), 32 PD5/~{SS} (in), 33 TCMP (out), 34 PD7 (in), 35 TCAP (in), 36 OSC2, 37 OSC1 (in), 38 VDD (power), 39 NC, 40 NC, 41 ~{RESET} (in), 42 ~{IRQ} (in), 43 NC, 44 PA7 (io)

## MC68HSC05C8AFN
designator U?
8-Bit Microcontroller; Note: If MC68HC705C8A OTPs are to be used in the same applicaion, pin 4 should be tied to VDD.; Published: 17-Jan-2003; LatestRevisionDate: 13-Apr-2006; LatestRevisionNote: IPC-7351 Footprint Added.; DatasheetVersion: Rev 5, 4/2002; PackageVersion: rev3, Feb-2002; PackageReference: 777-02; Publisher: Altium Limited; PackageDescription: 44-Pin Plastic Leaded Chip Carrier 1.27 mm Pitch; ComponentLink1Description: Manufacturer Link; ComponentLink1URL: http://www.freescale.com/; ComponentLink2Description: Datasheet; ComponentLink2URL: http://www.freescale.com/files/microcontrollers/doc/data_sheet/MC68HC05C8A.pdf
footprint 777-02_N (Leaded Chip Carrier, 44-Leads, Body 16.6x16.6mm, Pitch 1.27mm, IPC Medium Density)
footprint 777-02_L (Leaded Chip Carrier, 44-Leads, Body 16.6x16.6mm, Pitch 1.27mm, IPC High Density)
footprint 777-02_M (Leaded Chip Carrier, 44-Leads, Body 16.6x16.6mm, Pitch 1.27mm, IPC Low Density)
3D model MC68HSC05-777-02 (44-Pin Plastic Leaded Chip Carrier 1.27 mm Pitch)
pins: 1 ~{RESET} (in), 2 ~{IRQ} (in), 3 NC, 4 NC, 5 PA7 (io), 6 PA6 (io), 7 PA5 (io), 8 PA4 (io), 9 PA3 (io), 10 PA2 (io), 11 PA1 (io), 12 PA0 (io), 13 PB0 (io), 14 PB1 (io), 15 PB2 (io), 16 PB3 (io), 17 PB4 (io), 18 NC, 19 PB5 (io), 20 PB6 (io), 21 PB7 (io), 22 VSS (power), 23 NC, 24 PC7 (io), 25 PC6 (io), 26 PC5 (io), 27 PC4 (io), 28 PC3 (io), 29 PC2 (io), 30 PC1 (io), 31 PC0 (io), 32 PD0/RDI (in), 33 PD1/TDO (io), 34 PD2/MISO (io), 35 PD3/MOSI (io), 36 PD4/SCK (io), 37 PD5/~{SS} (in), 38 TCMP (out), 39 PD7 (in), 40 NC, 41 TCAP (in), 42 OSC2, 43 OSC1 (in), 44 VDD (power)

## MC68HSC05C8AP
designator U?
8-Bit Microcontroller; Note: If MC68HC705C8A OTPs are to be used in the same applicaion, pin 3 should be tied to VDD.; Published: 17-Jan-2003; LatestRevisionDate: 06-Jun-2005; LatestRevisionNote: Stylized 3D Model Added.; DatasheetVersion: Rev 5, 4/2002; PackageReference: 711-03; Publisher: Altium Limited; PackageDescription: DIP; 40 Leads; Row Spacing 15.24 mm; Pitch 2.54 mm; ComponentLink1Description: Manufacturer Link; ComponentLink1URL: http://www.freescale.com/; ComponentLink2Description: Datasheet; ComponentLink2URL: http://www.freescale.com/files/microcontrollers/doc/data_sheet/MC68HC05C8A.pdf
footprint 711-03 (DIP; 40 Leads; Row Spacing 15.24 mm; Pitch 2.54 mm)
3D model 711-03 (DIP; 40 Leads; Row Spacing 15.24 mm; Pitch 2.54 mm)
pins: 1 ~{RESET} (in), 2 ~{IRQ} (in), 3 NC, 4 PA7 (io), 5 PA6 (io), 6 PA5 (io), 7 PA4 (io), 8 PA3 (io), 9 PA2 (io), 10 PA1 (io), 11 PA0 (io), 12 PB0 (io), 13 PB1 (io), 14 PB2 (io), 15 PB3 (io), 16 PB4 (io), 17 PB5 (io), 18 PB6 (io), 19 PB7 (io), 20 VSS (power), 21 PC7 (io), 22 PC6 (io), 23 PC5 (io), 24 PC4 (io), 25 PC3 (io), 26 PC2 (io), 27 PC1 (io), 28 PC0 (io), 29 PD0/RDI (in), 30 PD1/TDO (io), 31 PD2/MISO (io), 32 PD3/MOSI (io), 33 PD4/SCK (io), 34 PD5/~{SS} (in), 35 TCMP (out), 36 PD7 (in), 37 TCAP (in), 38 OSC2, 39 OSC1 (in), 40 VDD (power)

## MC68HSC05C8CB
designator U?
8-Bit Microcontroller; Note: If MC68HC705C8A OTPs are to be used in the same applicaion, pin 3 should be tied to VDD.; Published: 17-Jan-2003; LatestRevisionDate: 06-Jun-2005; LatestRevisionNote: Stylized 3D Model Added.; DatasheetVersion: Rev 5, 4/2002; PackageVersion: rev5, Apr-2002; PackageReference: 858-01; Publisher: Altium Limited; PackageDescription: DIP, Plastic; 42 Leads; Row Spacing 15.24 mm; Pitch 1.778 mm; ComponentLink1Description: Manufacturer Link; ComponentLink1URL: http://www.freescale.com/; ComponentLink2Description: Datasheet; ComponentLink2URL: http://www.freescale.com/files/microcontrollers/doc/data_sheet/MC68HC05C8A.pdf
footprint 858-01 (DIP, Plastic; 42 Leads; Row Spacing 15.24 mm; Pitch 1.778 mm)
3D model 858-01 (DIP, Plastic; 42 Leads; Row Spacing 15.24 mm; Pitch 1.778 mm)
pins: 1 ~{RESET} (in), 2 ~{IRQ} (in), 3 NC, 4 PA7 (io), 5 PA6 (io), 6 PA5 (io), 7 PA4 (io), 8 PA3 (io), 9 PA2 (io), 10 PA1 (io), 11 PA0 (io), 12 PB0 (io), 13 PB1 (io), 14 PB2 (io), 15 PB3 (io), 16 NC, 17 PB4 (io), 18 PB5 (io), 19 PB6 (io), 20 PB7 (io), 21 VSS (power), 22 PC7 (io), 23 PC6 (io), 24 PC5 (io), 25 PC4 (io), 26 PC3 (io), 27 NC, 28 PC2 (io), 29 PC1 (io), 30 PC0 (io), 31 PD0/RDI (in), 32 PD1/TDO (io), 33 PD2/MISO (io), 34 PD3/MOSI (io), 35 PD4/SCK (io), 36 PD5/~{SS} (in), 37 TCMP (out), 38 PD7 (in), 39 TCAP (in), 40 OSC2, 41 OSC1 (in), 42 VDD (power)

## MC68HSC05C8CFB
designator U?
8-Bit Microcontroller; Note: If MC68HC705C8A OTPs are to be used in the same applicaion, pin 43 should be tied to VDD.; Published: 17-Jan-2003; LatestRevisionDate: 13-Apr-2006; LatestRevisionNote: IPC-7351 Footprint Added.; DatasheetVersion: Rev 5, 4/2002; PackageVersion: rev5, Apr-2002; PackageReference: 824A-01; Publisher: Altium Limited; PackageDescription: 44-Pin Quad Flat Pack 0.8 mm Pitch; Code_JEDEC: MS-022-AB; Code_IPC: QFP80P1320X1320-44; ComponentLink1Description: Manufacturer Link; ComponentLink1URL: http://www.freescale.com/; ComponentLink2Description: Datasheet; ComponentLink2URL: http://www.freescale.com/files/microcontrollers/doc/data_sheet/MC68HC05C8A.pdf
footprint 824A-01_N (QFP, 44-Leads, Body 10x10mm, Pitch 0.8mm, IPC Medium Density)
footprint 824A-01_L (QFP, 44-Leads, Body 10x10mm, Pitch 0.8mm, IPC High Density)
footprint 824A-01_M (QFP, 44-Leads, Body 10x10mm, Pitch 0.8mm, IPC Low Density)
3D model MC68HSC05-824A-01 (44-Pin Quad Flat Pack 0.8 mm Pitch)
pins: 1 PA6 (io), 2 PA5 (io), 3 PA4 (io), 4 PA3 (io), 5 PA2 (io), 6 PA1 (io), 7 PA0 (io), 8 PB0 (io), 9 PB1 (io), 10 PB2 (io), 11 PB3 (io), 12 PB4 (io), 13 PB5 (io), 14 PB6 (io), 15 PB7 (io), 16 NC, 17 VSS (power), 18 PC7 (io), 19 PC6 (io), 20 PC5 (io), 21 PC4 (io), 22 NC, 23 PC3 (io), 24 PC2 (io), 25 PC1 (io), 26 PC0 (io), 27 PD0/RDI (in), 28 PD1/TDO (io), 29 PD2/MISO (io), 30 PD3/MOSI (io), 31 PD4/SCK (io), 32 PD5/~{SS} (in), 33 TCMP (out), 34 PD7 (in), 35 TCAP (in), 36 OSC2, 37 OSC1 (in), 38 VDD (power), 39 NC, 40 NC, 41 ~{RESET} (in), 42 ~{IRQ} (in), 43 NC, 44 PA7 (io)

## MC68HSC05C8CFN
designator U?
8-Bit Microcontroller; Note: If MC68HC705C8A OTPs are to be used in the same applicaion, pin 4 should be tied to VDD.; Published: 17-Jan-2003; LatestRevisionDate: 13-Apr-2006; LatestRevisionNote: IPC-7351 Footprint Added.; DatasheetVersion: Rev 5, 4/2002; PackageVersion: rev3, Feb-2002; PackageReference: 777-02; Publisher: Altium Limited; PackageDescription: 44-Pin Plastic Leaded Chip Carrier 1.27 mm Pitch; ComponentLink1Description: Manufacturer Link; ComponentLink1URL: http://www.freescale.com/; ComponentLink2Description: Datasheet; ComponentLink2URL: http://www.freescale.com/files/microcontrollers/doc/data_sheet/MC68HC05C8A.pdf
footprint 777-02_N (Leaded Chip Carrier, 44-Leads, Body 16.6x16.6mm, Pitch 1.27mm, IPC Medium Density)
footprint 777-02_L (Leaded Chip Carrier, 44-Leads, Body 16.6x16.6mm, Pitch 1.27mm, IPC High Density)
footprint 777-02_M (Leaded Chip Carrier, 44-Leads, Body 16.6x16.6mm, Pitch 1.27mm, IPC Low Density)
3D model MC68HSC05-777-02 (44-Pin Plastic Leaded Chip Carrier 1.27 mm Pitch)
pins: 1 ~{RESET} (in), 2 ~{IRQ} (in), 3 NC, 4 NC, 5 PA7 (io), 6 PA6 (io), 7 PA5 (io), 8 PA4 (io), 9 PA3 (io), 10 PA2 (io), 11 PA1 (io), 12 PA0 (io), 13 PB0 (io), 14 PB1 (io), 15 PB2 (io), 16 PB3 (io), 17 PB4 (io), 18 NC, 19 PB5 (io), 20 PB6 (io), 21 PB7 (io), 22 VSS (power), 23 NC, 24 PC7 (io), 25 PC6 (io), 26 PC5 (io), 27 PC4 (io), 28 PC3 (io), 29 PC2 (io), 30 PC1 (io), 31 PC0 (io), 32 PD0/RDI (in), 33 PD1/TDO (io), 34 PD2/MISO (io), 35 PD3/MOSI (io), 36 PD4/SCK (io), 37 PD5/~{SS} (in), 38 TCMP (out), 39 PD7 (in), 40 NC, 41 TCAP (in), 42 OSC2, 43 OSC1 (in), 44 VDD (power)

## MC68HSC05C8CP
designator U?
8-Bit Microcontroller; Note: If MC68HC705C8A OTPs are to be used in the same applicaion, pin 3 should be tied to VDD.; Published: 17-Jan-2003; LatestRevisionDate: 06-Jun-2005; LatestRevisionNote: Stylized 3D Model Added.; DatasheetVersion: Rev 5, 4/2002; PackageReference: 711-03; Publisher: Altium Limited; PackageDescription: DIP; 40 Leads; Row Spacing 15.24 mm; Pitch 2.54 mm; ComponentLink1Description: Manufacturer Link; ComponentLink1URL: http://www.freescale.com/; ComponentLink2Description: Datasheet; ComponentLink2URL: http://www.freescale.com/files/microcontrollers/doc/data_sheet/MC68HC05C8A.pdf
footprint 711-03 (DIP; 40 Leads; Row Spacing 15.24 mm; Pitch 2.54 mm)
3D model 711-03 (DIP; 40 Leads; Row Spacing 15.24 mm; Pitch 2.54 mm)
pins: 1 ~{RESET} (in), 2 ~{IRQ} (in), 3 NC, 4 PA7 (io), 5 PA6 (io), 6 PA5 (io), 7 PA4 (io), 8 PA3 (io), 9 PA2 (io), 10 PA1 (io), 11 PA0 (io), 12 PB0 (io), 13 PB1 (io), 14 PB2 (io), 15 PB3 (io), 16 PB4 (io), 17 PB5 (io), 18 PB6 (io), 19 PB7 (io), 20 VSS (power), 21 PC7 (io), 22 PC6 (io), 23 PC5 (io), 24 PC4 (io), 25 PC3 (io), 26 PC2 (io), 27 PC1 (io), 28 PC0 (io), 29 PD0/RDI (in), 30 PD1/TDO (io), 31 PD2/MISO (io), 32 PD3/MOSI (io), 33 PD4/SCK (io), 34 PD5/~{SS} (in), 35 TCMP (out), 36 PD7 (in), 37 TCAP (in), 38 OSC2, 39 OSC1 (in), 40 VDD (power)

## MC68HSC05C9AB
designator U?
8-Bit Microcontroller; Note: If MC68HC705C9A devices are to be used in the same socket, pin 3 should be tied to VDD.; Published: 17-Jan-2003; LatestRevisionDate: 06-Jun-2005; LatestRevisionNote: Stylized 3D Model Added.; DatasheetVersion: Rev 5, 2000; PackageVersion: rev5, Apr-2002; PackageReference: 858-01; Publisher: Altium Limited; PackageDescription: DIP, Plastic; 42 Leads; Row Spacing 15.24 mm; Pitch 1.778 mm; ComponentLink1Description: Manufacturer Link; ComponentLink1URL: http://www.freescale.com/; ComponentLink2Description: Datasheet; ComponentLink2URL: http://www.freescale.com/files/microcontrollers/doc/data_sheet/MC68HC05C9A.pdf
footprint 858-01 (DIP, Plastic; 42 Leads; Row Spacing 15.24 mm; Pitch 1.778 mm)
3D model 858-01 (DIP, Plastic; 42 Leads; Row Spacing 15.24 mm; Pitch 1.778 mm)
pins: 1 ~{RESET} (io), 2 ~{IRQ} (in), 3 NC, 4 PA7 (io), 5 PA6 (io), 6 PA5 (io), 7 PA4 (io), 8 PA3 (io), 9 PA2 (io), 10 PA1 (io), 11 PA0 (io), 12 PB0 (io), 13 PB1 (io), 14 PB2 (io), 15 PB3 (io), 16 NC, 17 PB4 (io), 18 PB5 (io), 19 PB6 (io), 20 PB7 (io), 21 VSS (power), 22 PC7 (io), 23 PC6 (io), 24 PC5 (io), 25 PC4 (io), 26 PC3 (io), 27 NC, 28 PC2 (io), 29 PC1 (io), 30 PC0 (io), 31 PD0/RDI (io), 32 PD1/TDO (io), 33 PD2/MISO (io), 34 PD3/MOSI (io), 35 PD4/SCK (io), 36 PD5/~{SS} (io), 37 TCMP (out), 38 PD7 (io), 39 TCAP (in), 40 OSC2, 41 OSC1, 42 VDD (power)

## MC68HSC05C9ACB
designator U?
8-Bit Microcontroller; Note: If MC68HC705C9A devices are to be used in the same socket, pin 3 should be tied to VDD.; Published: 17-Jan-2003; LatestRevisionDate: 06-Jun-2005; LatestRevisionNote: Stylized 3D Model Added.; DatasheetVersion: Rev 5, 2000; PackageVersion: rev5, Apr-2002; PackageReference: 858-01; Publisher: Altium Limited; PackageDescription: DIP, Plastic; 42 Leads; Row Spacing 15.24 mm; Pitch 1.778 mm; ComponentLink1Description: Manufacturer Link; ComponentLink1URL: http://www.freescale.com/; ComponentLink2Description: Datasheet; ComponentLink2URL: http://www.freescale.com/files/microcontrollers/doc/data_sheet/MC68HC05C9A.pdf
footprint 858-01 (DIP, Plastic; 42 Leads; Row Spacing 15.24 mm; Pitch 1.778 mm)
3D model 858-01 (DIP, Plastic; 42 Leads; Row Spacing 15.24 mm; Pitch 1.778 mm)
pins: 1 ~{RESET} (io), 2 ~{IRQ} (in), 3 NC, 4 PA7 (io), 5 PA6 (io), 6 PA5 (io), 7 PA4 (io), 8 PA3 (io), 9 PA2 (io), 10 PA1 (io), 11 PA0 (io), 12 PB0 (io), 13 PB1 (io), 14 PB2 (io), 15 PB3 (io), 16 NC, 17 PB4 (io), 18 PB5 (io), 19 PB6 (io), 20 PB7 (io), 21 VSS (power), 22 PC7 (io), 23 PC6 (io), 24 PC5 (io), 25 PC4 (io), 26 PC3 (io), 27 NC, 28 PC2 (io), 29 PC1 (io), 30 PC0 (io), 31 PD0/RDI (io), 32 PD1/TDO (io), 33 PD2/MISO (io), 34 PD3/MOSI (io), 35 PD4/SCK (io), 36 PD5/~{SS} (io), 37 TCMP (out), 38 PD7 (io), 39 TCAP (in), 40 OSC2, 41 OSC1, 42 VDD (power)

## MC68HSC05C9ACFB
designator U?
8-Bit Microcontroller; Note: If MC68HC705C9A devices are to be used in the same socket, pin 43 should be tied to VDD.; Published: 17-Jan-2003; LatestRevisionDate: 13-Apr-2006; LatestRevisionNote: IPC-7351 Footprint Added.; DatasheetVersion: Rev 5, 2000; PackageVersion: rev5, Apr-2002; PackageReference: 824A-01; Publisher: Altium Limited; PackageDescription: 44-Pin Quad Flat Pack 0.8 mm Pitch; Code_JEDEC: MS-022-AB; Code_IPC: QFP80P1320X1320-44; ComponentLink1Description: Manufacturer Link; ComponentLink1URL: http://www.freescale.com/; ComponentLink2Description: Datasheet; ComponentLink2URL: http://www.freescale.com/files/microcontrollers/doc/data_sheet/MC68HC05C9A.pdf
footprint 824A-01_N (QFP, 44-Leads, Body 10x10mm, Pitch 0.8mm, IPC Medium Density)
footprint 824A-01_L (QFP, 44-Leads, Body 10x10mm, Pitch 0.8mm, IPC High Density)
footprint 824A-01_M (QFP, 44-Leads, Body 10x10mm, Pitch 0.8mm, IPC Low Density)
3D model MC68HSC05-824A-01 (44-Pin Quad Flat Pack 0.8 mm Pitch)
pins: 1 PA6 (io), 2 PA5 (io), 3 PA4 (io), 4 PA3 (io), 5 PA2 (io), 6 PA1 (io), 7 PA0 (io), 8 PB0 (io), 9 PB1 (io), 10 PB2 (io), 11 PB3 (io), 12 PB4 (io), 13 PB5 (io), 14 PB6 (io), 15 PB7 (io), 16 NC, 17 VSS (power), 18 PC7 (io), 19 PC6 (io), 20 PC5 (io), 21 PC4 (io), 22 NC, 23 PC3 (io), 24 PC2 (io), 25 PC1 (io), 26 PC0 (io), 27 PD0/RDI (io), 28 PD1/TDO (io), 29 PD2/MISO (io), 30 PD3/MOSI (io), 31 PD4/SCK (io), 32 PD5/~{SS} (io), 33 TCMP (out), 34 PD7 (io), 35 TCAP (in), 36 OSC2, 37 OSC1, 38 VDD (power), 39 NC, 40 NC, 41 ~{RESET} (io), 42 ~{IRQ} (in), 43 NC, 44 PA7 (io)

## MC68HSC05C9ACFN
designator U?
8-Bit Microcontroller; Note: If MC68HC705C9A devices are to be used in the same socket, pin 3 should be tied to VDD.; Note: For compatibility with MC68HC05C4A/C8A/C12A devices in 44-pin PLCC, tie pins 17 & 18 together, and tie pins 39 & 40 together.; Note: For compatibility with MC68HC705C8A 44-pin PLCC device, 3 sets of pins should be tied together - pins 17 & 18, 39 & 40, and pins 3, 4, & 44.; Published: 17-Jan-2003; LatestRevisionDate: 13-Apr-2006; LatestRevisionNote: IPC-7351 Footprint Added.; DatasheetVersion: Rev 5, 2000; PackageVersion: rev3, Feb-2002; PackageReference: 777-02; Publisher: Altium Limited; PackageDescription: 44-Pin Plastic Leaded Chip Carrier 1.27 mm Pitch; ComponentLink1Description: Manufacturer Link; ComponentLink1URL: http://www.freescale.com/; ComponentLink2Description: Datasheet; ComponentLink2URL: http://www.freescale.com/files/microcontrollers/doc/data_sheet/MC68HC05C9A.pdf
footprint 777-02_N (Leaded Chip Carrier, 44-Leads, Body 16.6x16.6mm, Pitch 1.27mm, IPC Medium Density)
footprint 777-02_L (Leaded Chip Carrier, 44-Leads, Body 16.6x16.6mm, Pitch 1.27mm, IPC High Density)
footprint 777-02_M (Leaded Chip Carrier, 44-Leads, Body 16.6x16.6mm, Pitch 1.27mm, IPC Low Density)
3D model MC68HSC05-777-02 (44-Pin Plastic Leaded Chip Carrier 1.27 mm Pitch)
pins: 1 ~{RESET} (io), 2 ~{IRQ} (in), 3 NC, 4 NC, 5 PA7 (io), 6 PA6 (io), 7 PA5 (io), 8 PA4 (io), 9 PA3 (io), 10 PA2 (io), 11 PA1 (io), 12 PA0 (io), 13 PB0 (io), 14 PB1 (io), 15 PB2 (io), 16 PB3 (io), 17 NC, 18 PB4 (io), 19 PB5 (io), 20 PB6 (io), 21 PB7 (io), 22 VSS (power), 23 NC, 24 PC7 (io), 25 PC6 (io), 26 PC5 (io), 27 PC4 (io), 28 PC3 (io), 29 PC2 (io), 30 PC1 (io), 31 PC0 (io), 32 PD0/RDI (io), 33 PD1/TDO (io), 34 PD2/MISO (io), 35 PD3/MOSI (io), 36 PD4/SCK (io), 37 PD5/~{SS} (io), 38 TCMP (out), 39 NC, 40 PD7 (io), 41 TCAP (in), 42 OSC2, 43 OSC1, 44 VDD (power)